# Altium footprint library stm32h743.PcbLib: 1 footprints
Each footprint in its own frame and in the unit in brackets; x right, y up, seen from the top. Pads: shape width x height; smd on the part's side, far side on the other; paste and mask are expansions set on the pad; w line width, h text height; cw(c..) or ccw(c..) is an arc to the next point about the centre after c.
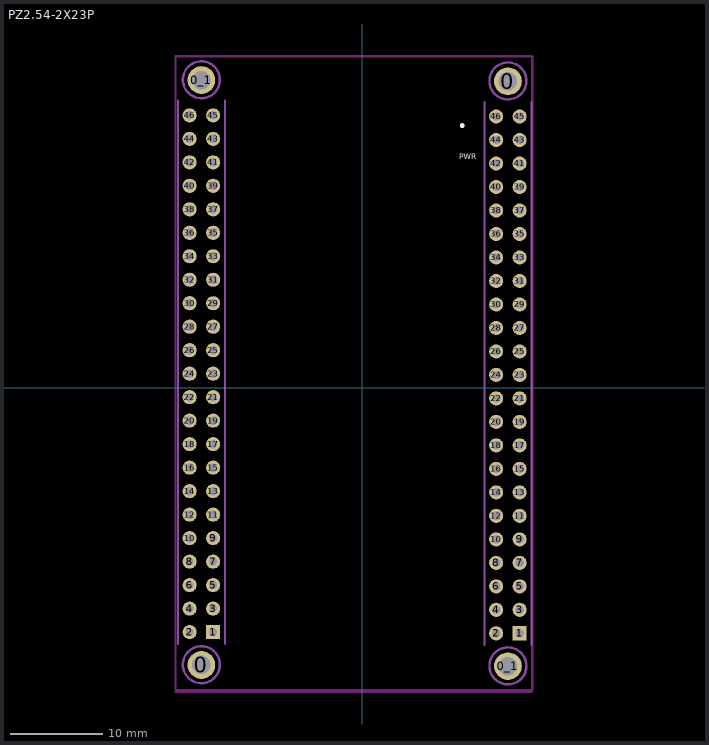
[diagram p0: the footprint, top view; thin cyan lines are the x and y axes]

## PZ2.54-2X23P [mil]
pads (96):
  round 118.11 hole 78.74: 0(-684.16,-1180.28) 0(620.83,1304.71) 0_1(-684.17,1309.71) 0_1(620.84,-1185.28)
  rect 60x60 hole 35: 1(-634.16,-1040.28) 1(670.84,-1045.28)
  round 60 hole 35: 2(-734.17,-1040.27) 2(570.83,-1045.27) 3(-634.16,-940.28) 3(670.84,-945.28) 4(-734.17,-940.27) 4(570.83,-945.27) 5(-634.16,-840.28) 5(670.84,-845.28) 6(-734.17,-840.27) 6(570.83,-845.27) 7(-634.16,-740.28) 7(670.84,-745.28) 8(-734.17,-740.27) 8(570.83,-745.27) 9(-634.16,-640.28) 9(670.84,-645.28) 10(-734.17,-640.27) 10(570.83,-645.27) 11(-634.16,-540.28) 11(670.84,-545.28) 12(-734.17,-540.27) 12(570.83,-545.27) 13(-634.16,-440.28) 13(670.84,-445.28) 14(-734.17,-440.27) 14(570.83,-445.27) 15(-634.16,-340.28) 15(670.84,-345.28) 16(-734.17,-340.27) 16(570.83,-345.27) 17(-634.16,-240.28) 17(670.84,-245.28) 18(-734.17,-240.27) 18(570.83,-245.27) 19(-634.16,-140.28) 19(670.84,-145.28) 20(-734.17,-140.27) 20(570.83,-145.27) 21(-634.16,-40.28) 21(670.84,-45.28) 22(-734.17,-40.27) 22(570.83,-45.27) 23(-634.16,59.72) 23(670.84,54.72) 24(-734.17,59.73) 24(570.83,54.73) 25(-634.16,159.72) 25(670.84,154.72) 26(-734.17,159.73) 26(570.83,154.73) 27(-634.16,259.72) 27(670.84,254.72) 28(-734.17,259.73) 28(570.83,254.73) 29(-634.16,359.72) 29(670.84,354.72) 30(-734.17,359.73) 30(570.83,354.73) 31(-634.16,459.72) 31(670.84,454.72) 32(-734.17,459.73) 32(570.83,454.73) 33(-634.16,559.72) 33(670.84,554.72) 34(-734.17,559.73) 34(570.83,554.73) 35(-634.15,659.71) 35(670.85,654.71) 36(-734.16,659.72) 36(570.84,654.72) 37(-634.15,759.71) 37(670.85,754.71) 38(-734.16,759.72) 38(570.84,754.72) 39(-634.15,859.71) 39(670.85,854.71) 40(-734.16,859.72) 40(570.84,854.72) 41(-634.15,959.71) 41(670.85,954.71) 42(-734.16,959.72) 42(570.84,954.72) 43(-634.15,1059.71) 43(670.85,1054.71) 44(-734.16,1059.72) 44(570.84,1054.72) 45(-634.15,1159.71) 45(670.85,1154.71) 46(-734.16,1159.72) 46(570.84,1154.72)
Top Overlay:
  circle w10: c426,1116 r5.1
  text "PWR" at 413,964.85 h39.37
Bottom Overlay:
  lines w3.94: -611,1383.85 -611,1238.85 -540,1238.85 -540,1388.85 -605,1388.85 -610,1383.85 -610,1382.85 ; 350,1393.85 350,1326.85 351,1325.85 513,1325.85 515,1327.85 515,1389.85 ; 351,1393.85 511,1393.85 515,1389.85 ; 509,1317.85 509,1250.85 556,1203.85 ; 514,1390.85 515,1389.85 ; 545,1200.85 555,1200.85 556,1201.85 557,1201.85 557,1212.85 ; 531,1025.85 532,1024.85 709,1024.85 710,1025.85 710,1188.85 711,1189.85 531,1189.85 531,1176.85 531,1025.85
  lines w5.91: -770,1019.85 -769,1020.85 -769,1195.85 -768,1194.85 -596,1194.85 -596,1019.85 -767,1019.85 ; -631,1214.85 -631,1201.85 ; -615,1202.85 -616,1201.85 -631,1201.85 ; -600,1232.85 -631,1201.85 ; -482,1399 165,1399 165,1022 163,1020 -481,1020 ; -481,1022 -481,1396 ; 509,1317.85 509,1248.85 554,1203.85 554,1202.85 ; 531,1189.85 709,1189.85 710,1188.85 710,1026.85 708,1024.85 532,1024.85 531,1023.85 531,1184.85 532,1185.85 532,1188.85
  text "B15" at 428.28,409.79 h47.24
  text "D11" at 426.28,509.79 h47.24
  text "G3" at 428.28,624.79 h47.24
  text "G6" at 426.28,719.79 h47.24
  text "C7" at 425.28,803.79 h47.24
  text "C9" at 423.28,872.79 h47.24
  text "A8" at 434.06,1329.13 h39.37
  text "GND" at 435.06,1362.13 h39.37
  text "A10" at 506.26,1363.08 h39.37
  text "B12" at 504.06,1329.13 h39.37
  text "A9" at 476.28,869.79 h47.24
  text "C8" at 475.28,802.79 h47.24
  text "C6" at 476.28,718.79 h47.24
  text "G7" at 478.28,623.79 h47.24
  text "D13" at 476.28,508.79 h47.24
  text "D12" at 478.28,408.79 h47.24
  text "H8" at 509,-57.31 h59.06
  text "H9" at 509.06,38.13 h59.06
  text "C5" at 515.16,-365.15 h59.06
  text "B11" at 514.06,-160.31 h59.06
  text "B1" at 510.06,-258.31 h59.06
  text "B14" at 512.06,338.69 h59.06
  text "H10" at 510.06,236.69 h59.06
  text "H11" at 508.06,139.69 h59.06
  text "B5" at 428.06,-1061.31 h59.06
  text "A0" at 428.06,-964.31 h59.06
  text "A4" at 429.06,-564.31 h59.06
  text "H4" at 427.06,-661.31 h59.06
  text "H3" at 425.06,-756.87 h59.06
  text "A2" at 427,-858.31 h59.06
  text "H6" at 414.06,-57.31 h59.06
  text "B10" at 411.06,-160.31 h59.06
  text "B0" at 437.06,-258.31 h59.06
  text "C4" at 436.06,-362.8 h59.06
  text "A6" at 429.06,-464.8 h59.06
  text "H7" at 436.06,38.69 h59.06
  text "B3" at 404.06,140.69 h59.06
  text "H12" at 405.06,237.69 h59.06
  text "B13" at 407,340.69 h59.06
  text "C1" at 507.06,-1061.31 h59.06
  text "A1" at 509.06,-964.31 h59.06
  text "A5" at 511.06,-565.31 h59.06
  text "A3" at 511.06,-660.31 h59.06
  text "H5" at 510.06,-756.87 h59.06
  text "H2" at 510,-858.31 h59.06
  text "A7" at 511.06,-465.8 h59.06
  text "C11" at -523.72,426.79 h47.24
  text "A15" at -525.72,526.79 h47.24
  text "I3" at -523.72,641.79 h47.24
  text "I1" at -525.72,736.79 h47.24
  text "H13" at -526.72,820.79 h47.24
  text "H14" at -526.72,923.79 h47.24
  text "5V" at -569.72,1273.79 h39.37
  text "3V3" at -567.72,1327.79 h39.37
  text "3V3" at -599.72,1327.79 h39.37
  text "GND" at -600.72,1239.79 h39.37
  text "GND" at -576.72,920.79 h47.24
  text "H15" at -576.72,821.79 h47.24
  text "I0" at -575.72,737.79 h47.24
  text "I2" at -573.72,642.79 h47.24
  text "C10" at -575.72,527.79 h47.24
  text "I6" at -452.94,-473.8 h59.06
  text "I8" at -434,-860.31 h59.06
  text "E5" at -433.94,-758.87 h59.06
  text "E4" at -432.94,-662.31 h59.06
  text "E2" at -435.94,-574.31 h59.06
  text "I11" at -434.94,-966.31 h59.06
  text "I10" at -436.94,-1063.31 h59.06
  text "D3" at -498,340.69 h59.06
  text "C12" at -573.72,427.79 h47.24
  text "D5" at -495.94,239.69 h59.06
  text "D6" at -499.94,138.69 h59.06
  text "G10" at -476.94,35.69 h59.06
  text "I5" at -512.94,-473.8 h59.06
  text "B9" at -507.94,-367.8 h59.06
  text "B8" at -506.94,-276.31 h59.06
  text "G14" at -478.94,-173.31 h59.06
  text "G12" at -478.94,-62.31 h59.06
  text "C13" at -489,-858.31 h59.06
  text "E6" at -502.94,-758.87 h59.06
  text "E3" at -502.94,-661.31 h59.06
  text "I7" at -514.94,-573.31 h59.06
  text "I9" at -515.94,-966.31 h59.06
  text "B4" at -515.94,-1063.31 h59.06
  text "D7" at -425.94,138.69 h59.06
  text "D4" at -425.94,238.69 h59.06
  text "D2" at -422.94,341.69 h59.06
  text "B7" at -436.94,-278.31 h59.06
  text "G13" at -374.94,-174.31 h59.06
  text "I4" at -447.84,-369.15 h59.06
  text "G9" at -403.94,35.13 h59.06
  text "G11" at -380,-64.31 h59.06
  text "5V" at -409,990.85 h39.37
  text "RX" at -308,990.85 h39.37
  text "TX" at -208,992.85 h39.37
  text "VSS" at -104,1000.85 h39.37
  text "TMS" at -4,1001.85 h39.37
  text "TCK" at 98,1002.85 h39.37
  text "RST" at 199,994.85 h39.37
Keep-Out Layer:
  lines w3.94: 723,-1287.15 723,1411.85 ; 723,-1287 723,1412
  lines w5: -793.15,347.98 -793.15,1410.97 ; 724.85,347.98 724.85,1410.97
  lines w7.87: -793.84,-1296 721.91,-1296 ; -793.84,-1294 723,-1294 ; -793.84,-1286.85 -793.84,1410 721.91,1410 ; -793.84,1408.7 -793.84,-1287.15 723,-1287.15 ; -793.84,1408.85 -793.84,-1287 ; -793.84,1412 721.91,1412 ; -793,-1296 722.75,-1296 ; -793,-1295 722.75,-1295 ; -793,-1293.85 722.75,-1293.85 ; -793,-1286 -793,1410.85 722.75,1410.85 ; -793,-1285.85 -793,1411 722.75,1411 ; -793,1413 722.75,1413 ; 721.91,1409.85 -793.84,1409.85 -793.84,-1287 ; 723,-1287 -793.84,-1287 ; 724.16,-1287.15 724.16,1408.7 ; 724.16,1409.85 724.16,-1287 ; 725,-1286 725,1410.85 ; 724.16,-1287 724.16,1408.85 724.16,-1287 ; 724.16,-1286.85 724.16,1410 724.16,-1286.85 ; 725,-1285.85 725,1411 725,-1285.85
Mechanical 1:
  circle w10: c-684.17,1310.97 r78.74
  circle w10: c-684.16,-1179.02 r78.74
  circle w10: c620.84,-1184.02 r78.74
  circle w10: c620.83,1305.97 r78.74
  lines w7.87: -784.17,-1090.27 -784.17,609.72 -784.16,1222.73 ; -584.16,-1090.28 -584.16,609.72 -584.15,1222.73 ; 520.83,-1095.27 520.83,604.72 520.84,1217.73 ; 720.84,-1095.28 720.84,604.72 720.85,1217.73
3D body "PZ2.54-1X10P.STEP": height 336.22, standoff -118.11, extent -684.16,-1090.27 -584.16,-90.27
3D body "PZ2.54-1X10P.STEP": height 336.22, standoff -118.11, extent -784.17,-1090.27 -684.17,-90.27
3D body "PZ2.54-1X7P.STEP": height 336.22, standoff -118.11, extent -784.17,-90.27 -684.17,609.73
3D body "PZ2.54-1X7P.STEP": height 336.22, standoff -118.11, extent -684.16,-90.27 -584.16,609.73
3D body "PZ2.54-1X7P.STEP": height 336.22, standoff -118.11, extent -781.17,521.73 -681.17,1221.73
3D body "PZ2.54-1X7P.STEP": height 336.22, standoff -118.11, extent -686.17,523.73 -586.17,1223.73
3D body "PZ2.54-1X7P.STEP": height 336.22, standoff -118.11, extent 618.83,518.73 718.83,1218.73
3D body "PZ2.54-1X7P.STEP": height 336.22, standoff -118.11, extent 523.83,516.73 623.83,1216.73
3D body "PZ2.54-1X7P.STEP": height 336.22, standoff -118.11, extent 620.84,-95.27 720.84,604.73
3D body "PZ2.54-1X7P.STEP": height 336.22, standoff -118.11, extent 520.83,-95.27 620.83,604.73
3D body "PZ2.54-1X10P.STEP": height 336.22, standoff -118.11, extent 520.83,-1095.27 620.83,-95.27
3D body "PZ2.54-1X10P.STEP": height 336.22, standoff -118.11, extent 620.84,-1095.27 720.84,-95.27